# Altium footprint library THD Voltage Reference and Regulators.PcbLib: 22 footprints (part 1 of 2)
Each footprint in its own frame and in the unit in brackets; x right, y up, seen from the top. Pads: shape width x height; smd on the part's side, far side on the other; paste and mask are expansions set on the pad; w line width, h text height; cw(c..) or ccw(c..) is an arc to the next point about the centre after c.
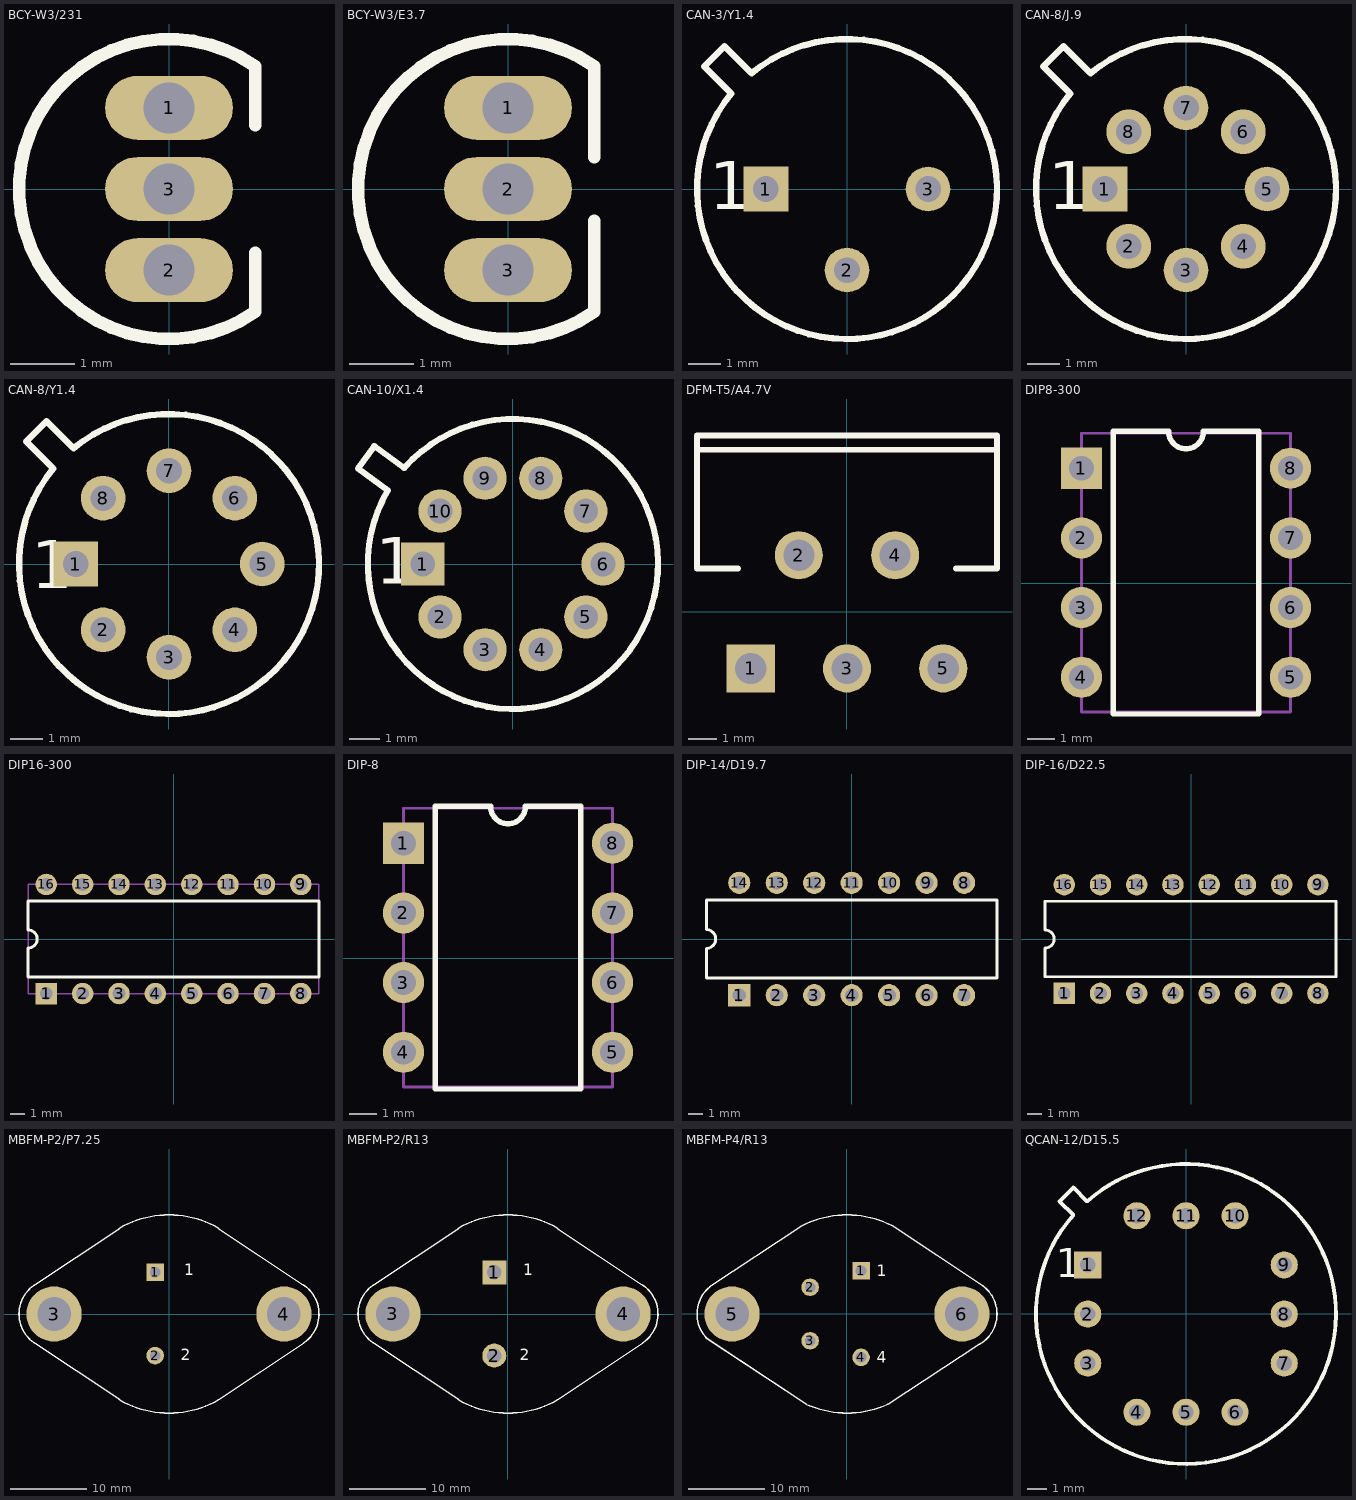
[diagram p0: the footprints below, top view; thin cyan lines are the x and y axes]

## BCY-W3/231 [mm]
pads (3):
  oval 2x1 hole 0.8: 1(0,1.27) 2(0,-1.27) 3(0,0)
Top Overlay:
  lines w0.2: 1.35,-1 1.35,-1.92 cw(c0,0) 1.35,1.92 1.35,1
3D body "TO-92-6.STEP": height 7, standoff -3, extent -2.5,-2.499 1.501,2.499

## BCY-W3/E3.7 [mm]
pads (3):
  oval 2x1 hole 0.8: 1(0,1.27) 2(0,0) 3(0,-1.27)
Top Overlay:
  lines w0.2: 1.35,-0.5 1.35,-1.92 cw(c0,0) 1.35,1.92 1.35,0.5
3D body "TO-92-6.STEP": height 7, standoff -3, extent -2.5,-2.499 1.501,2.499

## CAN-3/Y1.4 [mm]
pads (3):
  rect 1.4x1.4 hole 0.8: 1(-2.54,0)
  round 1.4 hole 0.8: 2(0,-2.54) 3(2.54,0)
Top Overlay:
  lines w0.2: -4.475,3.838 -3.838,4.475 -2.99,3.626 cw(c0,0) -3.626,2.99 -4.475,3.838
  text "1" at -4.318,-0.635 h1.5
3D body "CAN-3 Y1.4.STEP": height 5.21, standoff -2.36, extent -7.34,-6.647 6.647,7.34

## CAN-8/J.9 [mm]
pads (8):
  rect 1.4x1.4 hole 0.8: 1(-2.54,0)
  round 1.4 hole 0.8: 2(-1.796,-1.796) 3(0,-2.54) 4(1.796,-1.796) 5(2.54,0) 6(1.796,1.796) 7(0,2.54) 8(-1.796,1.796)
Top Overlay:
  lines w0.2: -4.475,3.838 -3.838,4.475 -2.99,3.626 cw(c0,0) -3.626,2.99 -4.475,3.838
  text "1" at -4.318,-0.635 h1.5
3D body "CAN-8 J9.STEP": height 4.95, standoff -2.62, extent -4.699,-4.699 4.699,4.699

## CAN-8/Y1.4 [mm]
pads (8):
  rect 1.4x1.4 hole 0.8: 1(-2.92,0)
  round 1.4 hole 0.8: 2(-2.065,-2.065) 3(0,-2.92) 4(2.065,-2.065) 5(2.92,0) 6(2.065,2.065) 7(0,2.92) 8(-2.065,2.065)
Top Overlay:
  lines w0.2: -4.475,3.838 -3.626,2.99 ccw(c0,0) -2.99,3.626 -3.838,4.475 -4.475,3.838
  text "1" at -4.318,-0.762 h1.5
3D body "CAN-8 Y1.4.STEP": height 5.21, standoff -2.36, extent -4.699,-4.699 4.699,4.699

## CAN-10/X1.4 [mm]
pads (10):
  rect 1.4x1.4 hole 0.8: 1(-2.92,0)
  round 1.4 hole 0.8: 2(-2.362,-1.716) 3(-0.902,-2.777) 4(0.902,-2.777) 5(2.362,-1.716) 6(2.92,0) 7(2.362,1.716) 8(0.902,2.777) 9(-0.902,2.777) 10(-2.362,1.716)
Top Overlay:
  lines w0.2: -4.049,2.386 -5.02,3.091 -4.491,3.819 -3.52,3.114 cw(c0,0) -4.049,2.386
  text "1" at -4.445,-0.635 h1.5
3D body "CAN-10 Y1.4.STEP": height 4.95, standoff -2.62, extent -5.376,-5.376 5.376,5.376

## DFM-T5/A4.7V [mm]
pads (5):
  rect 1.7x1.7 hole 1.1: 1(-3.4,-2)
  round 1.7 hole 1.1: 2(-1.7,2) 3(0,-2) 4(1.7,2) 5(3.4,-2)
Top Overlay:
  lines w0.2: -5.3,5.73 5.3,5.73 ; -3.854,1.53 -5.3,1.53 -5.3,6.23 5.3,6.23 5.3,1.53 3.854,1.53
3D body: height 0.92, standoff -1.03, extent -4.699,2.921 -4.699,2.921
3D body "TO220-5TV Full.step": height 24.03, standoff -7.96, extent -4.95,-2.163 4.95,6.336

## DIP8-300 [mm] "DIP; 8 Leads; Row Spacing 7.62 mm; Pitch 2.54 mm"
height 5.33
pads (8):
  rect 1.5x1.5 hole 0.9: 1(-11.303,4.191)
  round 1.5 hole 0.9: 2(-11.303,1.651) 3(-11.303,-0.889) 4(-11.303,-3.429) 5(-3.683,-3.429) 6(-3.683,-0.889) 7(-3.683,1.651) 8(-3.683,4.191)
Top Overlay:
  lines w0.2: -10.143,-4.769 -10.143,5.531 -8.128,5.531 ccw(c-7.493,5.531) -6.858,5.531 -4.843,5.531 -4.843,-4.769 -10.143,-4.769
Mechanical 13:
  lines w0.1: -11.303,-4.699 -3.683,-4.699 -3.683,5.461 -11.303,5.461 -11.303,-4.699
3D body "DIP8-300.STEP": height 4.19, standoff -2.67, extent -11.43,-5.207 -3.556,6.223

## DIP16-300 [mm] "DIP, Molded; 16 Leads; Row Spacing 7.62 mm; Pitch 2.54 mm"
height 4.83
pads (16):
  rect 1.5x1.5 hole 0.9: 1(-8.89,-3.81)
  round 1.5 hole 0.9: 2(-6.35,-3.81) 3(-3.81,-3.81) 4(-1.27,-3.81) 5(1.27,-3.81) 6(3.81,-3.81) 7(6.35,-3.81) 8(8.89,-3.81) 9(8.89,3.81) 10(6.35,3.81) 11(3.81,3.81) 12(1.27,3.81) 13(-1.27,3.81) 14(-3.81,3.81) 15(-6.35,3.81) 16(-8.89,3.81)
Top Overlay:
  lines w0.2: -10.16,-2.65 -10.16,-0.635 ccw(c-10.16,0) -10.16,0.635 -10.16,2.65 10.16,2.65 10.16,-2.65 -10.16,-2.65
Mechanical 13:
  lines w0.1: -10.16,-3.81 10.16,-3.81 10.16,3.81 -10.16,3.81 -10.16,-3.81
3D body "DIP16-300-1.STEP": height 4.44, standoff -2.31, extent -10.795,-3.937 10.795,3.937

## DIP-8 [mm] "DIP; 8 Leads; Row Spacing 7.62 mm; Pitch 2.54 mm"
height 5.33
pads (8):
  rect 1.5x1.5 hole 0.9: 1(-11.303,4.191)
  round 1.5 hole 0.9: 2(-11.303,1.651) 3(-11.303,-0.889) 4(-11.303,-3.429) 5(-3.683,-3.429) 6(-3.683,-0.889) 7(-3.683,1.651) 8(-3.683,4.191)
Top Overlay:
  lines w0.2: -10.143,-4.769 -4.843,-4.769 -4.843,5.531 -6.858,5.531 cw(c-7.493,5.531) -8.128,5.531 -10.143,5.531 -10.143,-4.769
Mechanical 13:
  lines w0.1: -11.303,-4.699 -11.303,5.461 -3.683,5.461 -3.683,-4.699 -11.303,-4.699
3D body "DIP8-300.STEP": height 4.19, standoff -2.67, extent -11.43,-5.207 -3.556,6.223

## DIP-14/D19.7 [mm]
pads (14):
  rect 1.5x1.5 hole 0.9: 1(-7.62,-3.81)
  round 1.5 hole 0.9: 2(-5.08,-3.81) 3(-2.54,-3.81) 4(0,-3.81) 5(2.54,-3.81) 6(5.08,-3.81) 7(7.62,-3.81) 8(7.62,3.81) 9(5.08,3.81) 10(2.54,3.81) 11(0,3.81) 12(-2.54,3.81) 13(-5.08,3.81) 14(-7.62,3.81)
Top Overlay:
  lines w0.2: -9.85,-2.65 -9.85,-0.635 ccw(c-9.85,0) -9.85,0.635 -9.85,2.65 9.85,2.65 9.85,-2.65 -9.85,-2.65
3D body "DIP-14.step": height 3.8, standoff -3.18, extent -9.525,-4 9.525,4

## DIP-16/D22.5 [mm]
pads (16):
  rect 1.5x1.5 hole 0.9: 1(-8.89,-3.81)
  round 1.5 hole 0.9: 2(-6.35,-3.81) 3(-3.81,-3.81) 4(-1.27,-3.81) 5(1.27,-3.81) 6(3.81,-3.81) 7(6.35,-3.81) 8(8.89,-3.81) 9(8.89,3.81) 10(6.35,3.81) 11(3.81,3.81) 12(1.27,3.81) 13(-1.27,3.81) 14(-3.81,3.81) 15(-6.35,3.81) 16(-8.89,3.81)
Top Overlay:
  lines w0.2: -10.234,-2.65 -10.234,-0.635 ccw(c-10.234,0) -10.234,0.635 -10.234,2.65 ; -10.16,-2.65 10.16,-2.65 10.16,2.65 -10.16,2.65
3D body "DIP16-300.STEP": height 5.1, standoff -3.3, extent -10,-3.935 10,3.935

## MBFM-P2/P7.25 [mm]
pads (4):
  rect 2.3x2.3 hole 1.4: 1(-1.815,5.46)
  round 2.3 hole 1.4: 2(-1.815,-5.46)
  round 7.25 hole 4.4: 3(-15.075,0) 4(15.075,0)
Top Overlay:
  lines w0.2: -17.8,-3.7 -6.5,-11.2 ; -17.8,3.7 -6.5,11.2 ; -17.713,-3.768 cw(c-15.075,0) -17.713,3.768 ; -6.5,-11.258 ccw(c0,0) 6.5,-11.258 ; -6.5,11.258 cw(c0,0) 6.5,11.258 ; 6.5,11.2 17.6,3.8 ; 6.6,-11.2 17.7,-3.8 ; 17.58,3.858 cw(c15.075,0) 17.713,-3.768
  text "1" at 2.032,5.08 h1.5
  text "2" at 1.524,-6.096 h1.5
3D body "TO-3.STEP": height 9.52, standoff -1.98, extent -19.795,-13.089 19.795,13.089
3D body "TO-3.STEP": height 8.75, standoff -2.75, extent -19.668,-13.081 19.922,13.097

## MBFM-P2/R13 [mm]
pads (4):
  rect 3.15x3.15 hole 1.9: 1(-1.795,5.46)
  round 3.15 hole 1.9: 2(-1.795,-5.46)
  round 7.25 hole 4.4: 3(-15.095,0) 4(15.095,0)
Top Overlay:
  lines w0.2: -17.8,-3.7 -6.5,-11.2 ; -17.8,3.7 -6.5,11.2 ; -17.713,-3.768 cw(c-15.075,0) -17.713,3.768 ; -6.5,-11.258 ccw(c0,0) 6.5,-11.258 ; -6.5,11.258 cw(c0,0) 6.5,11.258 ; 6.5,11.2 17.6,3.8 ; 6.6,-11.2 17.7,-3.8 ; 17.58,3.858 cw(c15.075,0) 17.713,-3.768
  text "1" at 2.032,5.08 h1.5
  text "2" at 1.524,-6.096 h1.5
3D body "TO-3.STEP": height 9.52, standoff -1.98, extent -19.922,-13.097 19.668,13.081

## MBFM-P4/R13 [mm]
pads (6):
  rect 2.3x2.3 hole 1.4: 1(1.844,5.677)
  round 2.3 hole 1.4: 2(-4.829,3.508) 3(-4.829,-3.508) 4(1.844,-5.677)
  round 7.25 hole 4.4: 5(-15.075,0) 6(15.075,0)
Top Overlay:
  lines w0.2: -18.53,-3.125 -5.33,-11.825 ; -18.395,-3.184 cw(c-15.075,0) -17.92,3.615 ; -18.03,3.575 -5.93,11.575 ; -5.917,11.575 cw(c0,0) 5.946,11.56 17.87,3.675 ; -5.275,-11.882 ccw(c0,0) 5.307,-11.867 ; 5.37,-11.825 17.47,-3.925 ; 17.375,-3.984 ccw(c15.075,0) 17.688,3.786
  text "1" at 3.93,4.96 h1.5
  text "4" at 3.93,-6.41 h1.5
3D body "MBFM-P4 R13 TO-3 4 Pin.STEP": height 9.52, standoff -2.38, extent -19.842,-13.109 19.748,13.069

## QCAN-12/D15.5 [mm]
pads (12):
  rect 1.4x1.4 hole 0.8: 1(-5.075,2.537)
  round 1.4 hole 0.8: 2(-5.075,0) 3(-5.075,-2.537) 4(-2.537,-5.075) 5(0,-5.075) 6(2.538,-5.075) 7(5.075,-2.537) 8(5.075,0) 9(5.075,2.537) 10(2.538,5.075) 11(0,5.075) 12(-2.538,5.075)
Top Overlay:
  lines w0.2: -6.529,5.822 -5.822,5.115 ccw(c0,0) -5.115,5.822 -5.822,6.529 -6.529,5.822
  text "1" at -6.731,1.905 h1.5
3D body "QCAN-12 D15.5.STEP": height 4.95, standoff -2.75, extent -7.489,-7.494 7.489,7.494